# EAGLE library part P8212 (library s100)
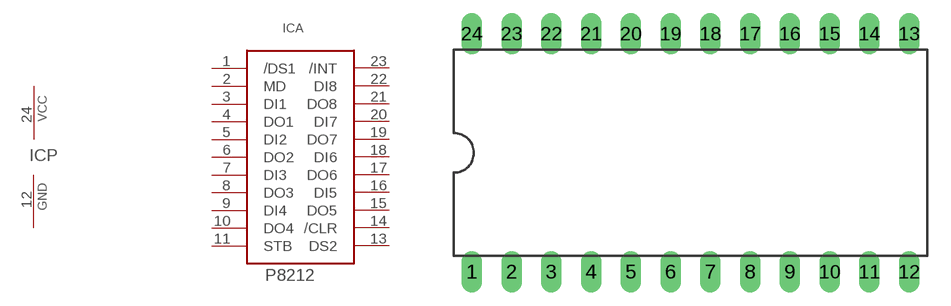
[diagram p2: symbol with the pads of DIL24-6; footprint DIL24-6]

Designator prefix IC; gates A=P8212 P=PWRN

## P8212  [DIL24-6]
1  A:/DS1
2  A:MD
3  A:DI1
4  A:DO1
5  A:DI2
6  A:DO2
7  A:DI3
8  A:DO3
9  A:DI4
10  A:DO4
11  A:STB
12  P:GND  pwr
13  A:DS2
14  A:/CLR
15  A:DO5
16  A:DI5
17  A:DO6
18  A:DI6
19  A:DO7
20  A:DI7
21  A:DO8
22  A:DI8
23  A:/INT
24  P:VCC  pwr

## Footprint DIL24-6 (pad centres in mm)
Dual In Line Package 0.6 inch
drill 0.813 long: 1 -13.97,-7.62; 2 -11.43,-7.62; 3 -8.89,-7.62; 4 -6.35,-7.62; 5 -3.81,-7.62; 6 -1.27,-7.62; 7 1.27,-7.62; 8 3.81,-7.62; 9 6.35,-7.62; 10 8.89,-7.62; 11 11.43,-7.62; 12 13.97,-7.62; 13 13.97,7.62; 14 11.43,7.62; 15 8.89,7.62; 16 6.35,7.62; 17 3.81,7.62; 18 1.27,7.62; 19 -1.27,7.62; 20 -3.81,7.62; 21 -6.35,7.62; 22 -8.89,7.62; 23 -11.43,7.62; 24 -13.97,7.62